# Altium footprint library ConectorProser_4h.PcbLib: 1 footprints
Each footprint in its own frame and in the unit in brackets; x right, y up, seen from the top. Pads: shape width x height; smd on the part's side, far side on the other; paste and mask are expansions set on the pad; w line width, h text height; cw(c..) or ccw(c..) is an arc to the next point about the centre after c.
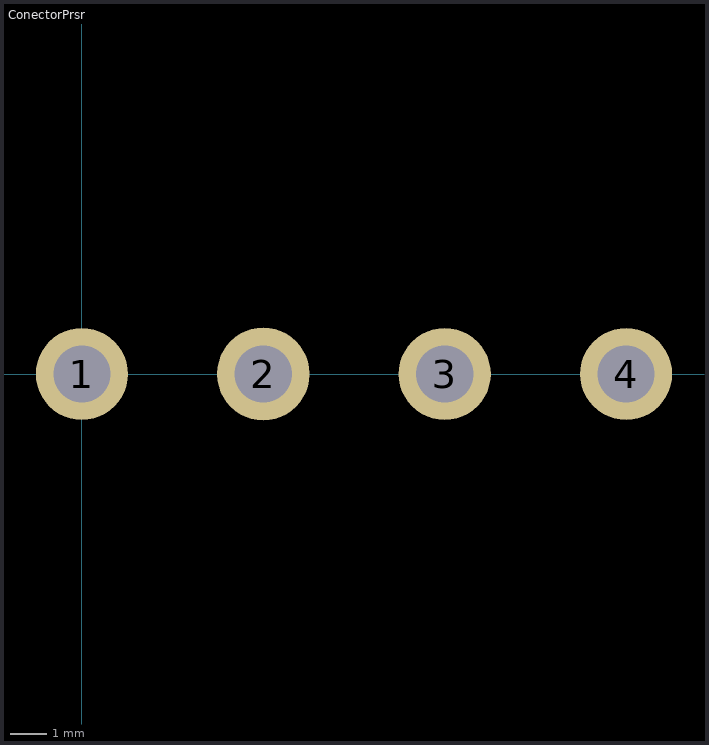
[diagram p0: the footprint, top view; thin cyan lines are the x and y axes]

## ConectorPrsr [mm]
pads (4):
  round 2.54 hole 1.575: 1(0,0) 3(10,0) 4(15,0)
  oval 2.54x2.57 hole 1.575: 2(5,0)
3D body: height 20, standoff 3, extent 0,2 15,7